# Altium schematic symbol library CC2510F16RHHR.SchLib: 2 symbols
Pins are listed as number, name and electrical type; pins without a type are passive.

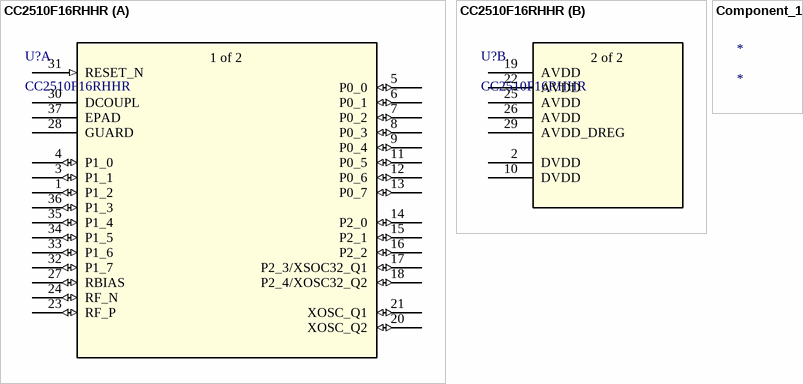
[diagram p0: symbols CC2510F16RHHR to Component_1]

## CC2510F16RHHR
designator U?
No Description Available; SourceLibrary: TI_2019-05-10; Built_By: EMA_Jessica; Vendor: Texas Instruments; Copyright: Copyright (C) 2018 Accelerated Designs. All rights reserved; Manufacturer_Part_Number: CC2510F16RHHR; RefDes: RefDes; Type: DEV
footprint RHH36_TEX
part A pins: 1 P1_2 (io), 3 P1_1 (io), 4 P1_0 (io), 5 P0_0 (io), 6 P0_1 (io), 7 P0_2 (io), 8 P0_3 (io), 9 P0_4 (io), 11 P0_5 (io), 12 P0_6 (io), 13 P0_7 (io), 14 P2_0 (io), 15 P2_1 (io), 16 P2_2 (io), 17 P2_3/XSOC32_Q1 (io), 18 P2_4/XOSC32_Q2 (io), 20 XOSC_Q2 (io), 21 XOSC_Q1 (io), 23 RF_P (io), 24 RF_N (io), 27 RBIAS (io), 28 GUARD, 30 DCOUPL, 31 RESET_N (in), 32 P1_7 (io), 33 P1_6 (io), 34 P1_5 (io), 35 P1_4 (io), 36 P1_3 (io), 37 EPAD
part B pins: 2 DVDD (power), 10 DVDD (power), 19 AVDD (power), 22 AVDD (power), 25 AVDD (power), 26 AVDD (power), 29 AVDD_DREG (power)
part A text: 1 of 2
part B text: 2 of 2

## Component_1
designator *